# Altium schematic symbol library SCH - LOGIC - SN74LVC2G14DBVR.SCHLIB: 1 symbol
Pins are listed as number, name and electrical type; pins without a type are passive.

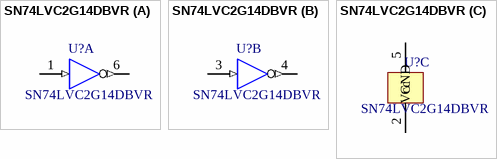
[diagram p0: symbol SN74LVC2G14DBVR]

## SN74LVC2G14DBVR
designator U?
IC, Buffer, Inverter, Schmitt Trigger, Dual; Manufacturer: Texas Instruments; Category: logic; Manufacturer Part Number: SN74LVC2G14DBVR; Supplier 1: Mouser; Supplier Part Number 1: 595-SN74LVC2G14DBVR; Mounting Style: SMT; Pins: 6; Created: 2020_10_12_MGremer; Package: SC70
part A pins: 1 1A (in), 6 1Y (out)
part B pins: 3 2A (in), 4 2Y (out)
part C pins: 2 GND (power), 5 Vcc (power)